# Altium footprint library Key.PcbLib: 1 footprints
Each footprint in its own frame and in the unit in brackets; x right, y up, seen from the top. Pads: shape width x height; smd on the part's side, far side on the other; paste and mask are expansions set on the pad; w line width, h text height; cw(c..) or ccw(c..) is an arc to the next point about the centre after c.
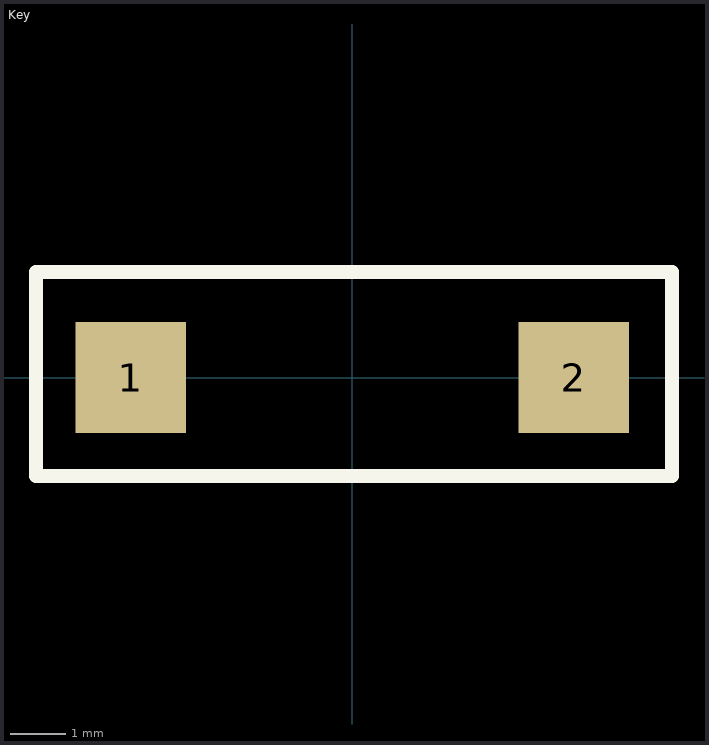
[diagram p0: the footprint, top view; thin cyan lines are the x and y axes]

## Key [mm]
pads (2):
  rect 2x2 smd: 1(-4,0) 2(4,0)
Top Overlay:
  lines w0.254: -5.715,-1.778 -5.715,0 -5.715,1.905 5.778,1.905 5.778,-1.778 -5.715,-1.778